# Altium footprint library Motion Controller.PcbLib: 208 footprints (part 2 of 13)
Each footprint in its own frame and in the unit in brackets; x right, y up, seen from the top. Pads: shape width x height; smd on the part's side, far side on the other; paste and mask are expansions set on the pad; w line width, h text height; cw(c..) or ccw(c..) is an arc to the next point about the centre after c.
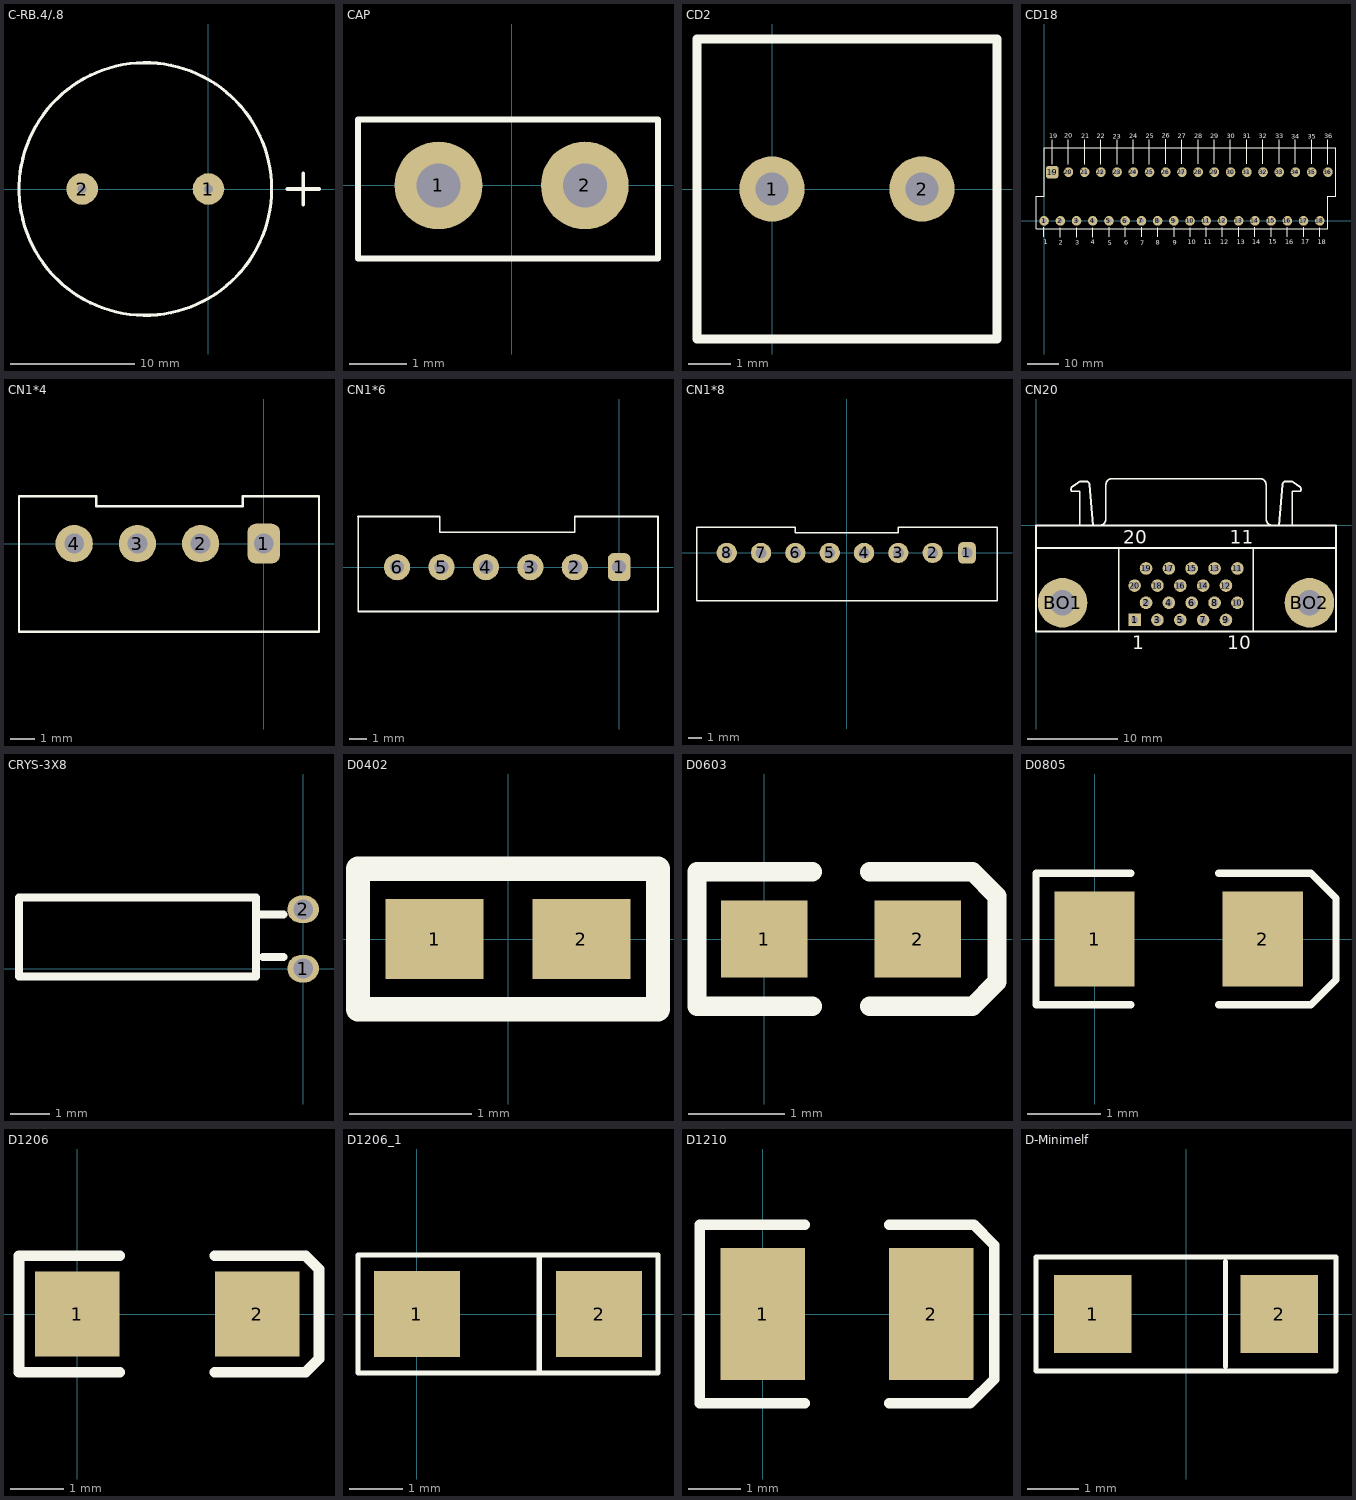
[diagram p1: the footprints below, top view; thin cyan lines are the x and y axes]

## C-RB.4/.8 [mil]
pads (2):
  round 100 hole 28: 1(0,0) 2(-400,0)
Top Overlay:
  circle w10: c-200,0 r400
  lines w12: 250,0 350,0 ; 300,-50 300,50

## CAP [mil]
pads (2):
  round 60 hole 30: 1(-50,0) 2(50,0)
Top Overlay:
  lines w3.94: -105,-50 -105,45 100,45 100,-50 -105,-50

## CD2 [mil]
pads (2):
  round 60 hole 30: 1(0,0) 2(137.8,0)
Top Overlay:
  lines w7.87: -68.9,-137.8 -68.9,137.8 206.69,137.8 206.69,-137.8 -68.9,-137.8

## CD18 [mm]
pads (36):
  round 3 hole 1.5: 1(0,0) 2(5.08,0) 3(10.16,0) 4(15.24,0) 5(20.32,0) 6(25.4,0) 7(30.48,0) 8(35.56,0) 9(40.64,0) 10(45.72,0) 11(50.8,0) 12(55.88,0) 13(60.96,0) 14(66.04,0) 15(71.12,0) 16(76.2,0) 17(81.28,0) 18(86.36,0) 20(7.62,15.24) 21(12.7,15.24) 22(17.78,15.24) 23(22.86,15.24) 24(27.94,15.24) 25(33.02,15.24) 26(38.1,15.24) 27(43.18,15.24) 28(48.26,15.24) 29(53.34,15.24) 30(58.42,15.24) 31(63.5,15.24) 32(68.58,15.24) 33(73.66,15.24) 34(78.74,15.24) 35(83.82,15.24) 36(88.9,15.24)
  rrect50% 4x4 hole 1.5: 19(2.54,15.24)
Top Overlay:
  lines w0.2: -0.035,-4.985 -0.035,-2.06 ; 2.565,17.79 2.565,25.44 ; 5.09,-5.085 5.09,-2.16 ; 7.615,17.79 7.615,25.44 ; 10.165,-5.085 10.165,-2.16 ; 12.715,17.79 12.715,25.44 ; 15.215,-5.085 15.215,-2.16 ; 17.715,17.79 17.715,25.44 ; 20.34,-4.935 20.34,-2.01 ; 22.89,17.74 22.89,25.39 ; 25.415,-4.985 25.415,-2.06 ; 27.94,17.815 27.94,25.465 ; 30.515,-4.985 30.515,-2.06 ; 33.015,17.79 33.015,25.44 ; 35.54,-5.035 35.54,-2.11 ; 38.165,17.89 38.165,25.54 ; 40.715,-4.985 40.715,-2.06 ; 43.165,17.815 43.165,25.465 ; 45.765,-5.035 45.765,-2.11 ; 48.29,17.815 48.29,25.465 ; 50.79,-4.985 50.79,-2.06 ; 53.29,17.815 53.29,25.465 ; 55.865,-4.985 55.865,-2.06 ; 58.29,17.815 58.29,25.465 ; 60.965,-4.985 60.965,-2.06 ; 63.515,17.815 63.515,25.465 ; 66.04,-4.935 66.04,-2.01 ; 68.565,17.815 68.565,25.465 ; 71.115,-5.035 71.115,-2.11 ; 73.665,17.815 73.665,25.465 ; 76.19,-4.985 76.19,-2.06 ; 78.74,17.815 78.74,25.465 ; 81.29,-4.985 81.29,-2.06 ; 83.84,17.815 83.84,25.465 ; 86.415,-5.035 86.415,-2.11 ; 88.915,17.765 88.915,25.415 ; -2.54,-2.54 88.9,-2.54 88.9,7.62 91.44,7.62 91.44,22.86 0,22.86 0,7.62 -2.54,7.62 -2.54,-2.54
  text "1" at -0.16,-7.41 h1.52
  text "2" at 4.64,-7.485 h1.52
  text "3" at 9.765,-7.485 h1.52
  text "4" at 14.64,-7.41 h1.52
  text "5" at 19.865,-7.585 h1.52
  text "6" at 25.04,-7.535 h1.52
  text "7" at 30.115,-7.585 h1.52
  text "8" at 35.015,-7.485 h1.52
  text "9" at 40.29,-7.485 h1.52
  text "10" at 44.94,-7.41 h1.52
  text "11" at 49.99,-7.41 h1.52
  text "12" at 55.115,-7.41 h1.52
  text "13" at 60.34,-7.335 h1.52
  text "14" at 65.215,-7.41 h1.52
  text "15" at 70.415,-7.235 h1.52
  text "16" at 75.565,-7.335 h1.52
  text "17" at 80.515,-7.235 h1.52
  text "18" at 85.74,-7.335 h1.52
  text "19" at 1.64,25.865 h1.52
  text "20" at 6.365,25.99 h1.52
  text "21" at 11.64,25.84 h1.52
  text "22" at 16.465,25.94 h1.52
  text "23" at 21.565,25.765 h1.52
  text "24" at 26.615,25.89 h1.52
  text "25" at 31.765,25.865 h1.52
  text "26" at 36.84,25.965 h1.52
  text "27" at 41.89,25.865 h1.52
  text "28" at 47.015,25.815 h1.52
  text "29" at 52.04,25.89 h1.52
  text "30" at 57.165,25.89 h1.52
  text "31" at 62.215,25.865 h1.52
  text "32" at 67.315,25.815 h1.52
  text "33" at 72.365,25.815 h1.52
  text "34" at 77.465,25.69 h1.52
  text "35" at 82.565,25.74 h1.52
  text "36" at 87.715,25.815 h1.52

## CN1*4 [mm]
pads (4):
  rrect50% 1.3x1.6 hole 0.8: 1(0,0)
  round 1.5 hole 0.8: 2(-2.54,0) 3(-5.08,0) 4(-7.62,0)
Top Overlay:
  lines w0.1: -9.84,-3.54 -9.84,1.9 ; -9.83,-3.54 2.22,-3.54 2.22,1.9 -0.838,1.9 -0.838,1.5 -6.731,1.5 -6.731,1.9 -9.804,1.9

## CN1*6 [mm]
pads (6):
  rrect50% 1.3x1.6 hole 0.8: 1(0,0)
  round 1.5 hole 0.8: 2(-2.54,0) 3(-5.08,0) 4(-7.62,0) 5(-10.16,0) 6(-12.7,0)
Top Overlay:
  lines w0.1: -14.935,2.9 -10.262,2.9 -10.262,2 -2.54,2 -2.54,2.9 2.22,2.9 2.22,-2.54 -14.91,-2.54 ; -14.92,-2.54 -14.92,2.9

## CN1*8 [mm]
pads (8):
  rrect50% 1.3x1.6 hole 0.8: 1(8.89,0)
  round 1.5 hole 0.8: 2(6.35,0) 3(3.81,0) 4(1.27,0) 5(-1.27,0) 6(-3.81,0) 7(-6.35,0) 8(-8.89,0)
Top Overlay:
  lines w0.1: -11.09,-3.54 -11.09,1.9 -3.81,1.9 -3.81,1.5 3.81,1.5 3.81,1.9 11.11,1.9 11.11,-3.54 -11.09,-3.54

## CN20 [mm]
pads (22):
  rect 1.4x1.4 hole 0.8: 1(10.96,-10.5)
  round 1.4 hole 0.8: 2(12.23,-8.595) 3(13.5,-10.5) 4(14.77,-8.595) 5(16.04,-10.5) 6(17.31,-8.595) 7(18.58,-10.5) 8(19.85,-8.595) 9(21.12,-10.5) 10(22.39,-8.595) 11(22.39,-4.785) 12(21.12,-6.69) 13(19.85,-4.785) 14(18.58,-6.69) 15(17.31,-4.785) 16(16.04,-6.69) 17(14.77,-4.785) 18(13.5,-6.69) 19(12.23,-4.785) 20(10.96,-6.69)
  round 5.5 hole 2.8: BO1(2.95,-8.595) BO2(30.4,-8.595)
Top Overlay:
  lines w0.2: 0,-2.5 33.35,-2.5 ; 3.985,4.27 4.925,4.898 5.647,4.898 cw(c5.545,4.5) 5.955,4.5 ; 3.999,4.255 ccw(c4.225,4.01) 3.975,3.79 4.855,3.79 4.855,0 ; 5.955,4.52 6.325,0 ; 7.065,0.005 ccw(c7.065,0.7) 7.76,0.7 7.76,4.5 ; 7.765,4.505 cw(c8.46,4.505) 8.46,5.2 24.89,5.2 cw(c24.89,4.505) 25.585,4.505 ; 9.2,-11.8 9.2,-2.58 ; 24.15,-11.8 24.15,-2.5 ; 25.59,4.5 25.59,0.7 ccw(c26.285,0.7) 26.285,0.005 ; 27.025,0 27.395,4.52 ; 27.395,4.5 cw(c27.805,4.5) 27.703,4.898 28.425,4.898 29.365,4.27 ; 28.495,0 28.495,3.79 29.375,3.79 ccw(c29.125,4.01) 29.351,4.255 ; 0,-11.8 33.35,-11.8 33.35,0 0,0 0,-11.8
  text "11" at 21.515,-2.025 h1.5
  text "20" at 9.71,-2.025 h1.5
  text "10" at 21.265,-13.775 h1.5
  text "1" at 10.71,-13.775 h1.5

## CRYS-3X8 [mm]
pads (2):
  oval 0.8x0.7 hole 0.5: 1(0,0) 2(0,1.5)
Top Overlay:
  lines w0.2: -1.09,1.375 -0.5,1.375 ; -1.022,0.292 -0.5,0.292 ; -7.2,-0.2 -7.2,1.8 -1.2,1.8 -1.2,-0.2 -7.2,-0.2

## D0402 [mm]
pads (2):
  rect 0.8x0.65 smd mask+0.051: 1(-0.6,0) 2(0.6,0)
Top Overlay:
  lines w0.2: -1.225,-0.575 -1.225,0.575 1.225,0.575 1.225,-0.575 -1.225,-0.575
3D body: height 0.36, standoff -0.01, extent -0.512,-0.262 0.538,0.263

## D0603 [mm]
pads (2):
  rect 0.9x0.8 smd: 1(0,0) 2(1.6,0)
Top Overlay:
  lines w0.2: 0.5,-0.7 -0.7,-0.7 -0.7,0.7 0.5,0.7 ; 1.1,-0.7 2.171,-0.7 2.425,-0.446 2.425,0.446 2.171,0.7 1.1,0.7

## D0805 [mm]
pads (2):
  rect 1.1x1.3 smd: 1(0,0) 2(2.3,0)
Top Overlay:
  lines w0.1: 0.5,-0.9 -0.8,-0.9 -0.8,0.9 0.5,0.9 ; 1.7,-0.9 2.96,-0.9 3.302,-0.558 3.302,0.558 2.96,0.9 1.7,0.9

## D1206 [mm]
pads (2):
  rect 1.6x1.6 smd: 1(0,0) 2(3.4,0)
Top Overlay:
  lines w0.2: 0.8,-1.1 -1.1,-1.1 -1.1,1.1 0.8,1.1 ; 2.6,-1.1 4.311,-1.1 4.565,-0.846 4.565,0.846 4.311,1.1 2.6,1.1

## D1206_1 [mm]
pads (2):
  rect 1.6x1.6 smd: 1(0,0) 2(3.4,0)
Top Overlay:
  lines w0.1: 2.286,-1.092 2.286,1.1 ; 4.497,1.099 4.496,1.1 2.286,1.1 ; 4.5,1.099 4.5,-1.099 2.286,-1.1 -1.1,-1.1 -1.1,1.1 2.286,1.1

## D1210 [mm]
pads (2):
  rect 1.6x2.5 smd: 1(0,0) 2(3.2,0)
Top Overlay:
  lines w0.2: 0.8,-1.7 -1.2,-1.7 -1.2,1.7 0.8,1.7 ; 2.4,-1.7 3.936,-1.7 4.4,-1.236 4.4,1.307 4.007,1.7 2.4,1.7

## D-Minimelf [mm]
pads (2):
  rect 1.5x1.5 smd: 1(-1.8,0) 2(1.8,0)
Top Overlay:
  lines w0.1: 0.762,-1.016 0.762,1.016 ; -2.9,-1.1 2.9,-1.1 2.9,1.1 -2.9,1.1 -2.9,-1.1